# Altium footprint library SS34.PcbLib: 1 footprints
Each footprint in its own frame and in the unit in brackets; x right, y up, seen from the top. Pads: shape width x height; smd on the part's side, far side on the other; paste and mask are expansions set on the pad; w line width, h text height; cw(c..) or ccw(c..) is an arc to the next point about the centre after c.
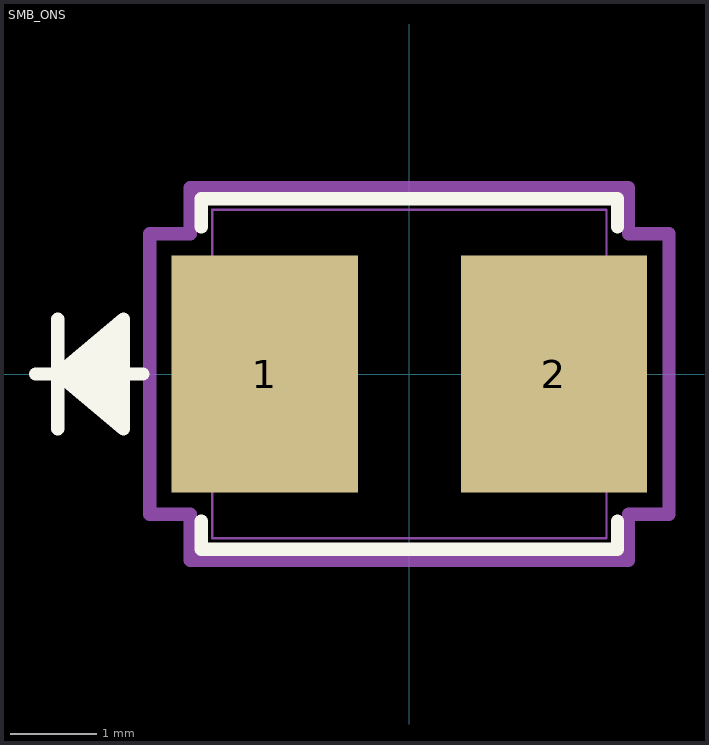
[diagram p0: the footprint, top view; thin cyan lines are the x and y axes]

## SMB_ONS [mil]
pads (2):
  rect 85x108 smd paste+0 mask+0: 1(-66,0) 2(66,0)
Top Overlay:
  lines w6: -170.5,0 -121.6,0 ; -160.5,-25 -160.5,25 ; -130.5,-20 -160.5,0 ; -130.5,-15 -160.5,0 ; -130.5,-10 -160.5,0 ; -130.5,-5 -160.5,0 ; -130.5,5 -160.5,0 ; -130.5,10 -160.5,0 ; -130.5,15 -160.5,0 ; -130.5,20 -160.5,0 ; -95,-67.1 -95,-80 95,-80 95,-67.1 ; -95,67.1 -95,80 95,80 95,67.1 ; -160.5,0 -130.5,-25 -130.5,25 -160.5,0
Mechanical 13:
  lines w1: -170.5,0 -120.5,0 ; -160.5,-25 -160.5,25 ; -130.5,-20 -160.5,0 ; -130.5,-15 -160.5,0 ; -130.5,-10 -160.5,0 ; -130.5,-5 -160.5,0 ; -130.5,5 -160.5,0 ; -130.5,10 -160.5,0 ; -130.5,15 -160.5,0 ; -130.5,20 -160.5,0 ; -160.5,0 -130.5,-25 -130.5,25 -160.5,0 ; -90,-75 -90,75 90,75 90,-75 -90,-75
Mechanical 15:
  lines w6: -118.5,-64 -100,-64 -100,-85 100,-85 100,-64 118.5,-64 118.5,64 100,64 100,85 -100,85 -100,64 -118.5,64 -118.5,-64
3D body "SMB_ONS.step": height 97.01, standoff 0, extent -90,-75 90,75